# EAGLE library part DLX2416 (library Parts)
Alphanumeric Smart Display DLR2416, DLRO416, DLRG416 Datasheet <http://www.mouser.com/ds/2/311/00034171_0-64059.pdf>
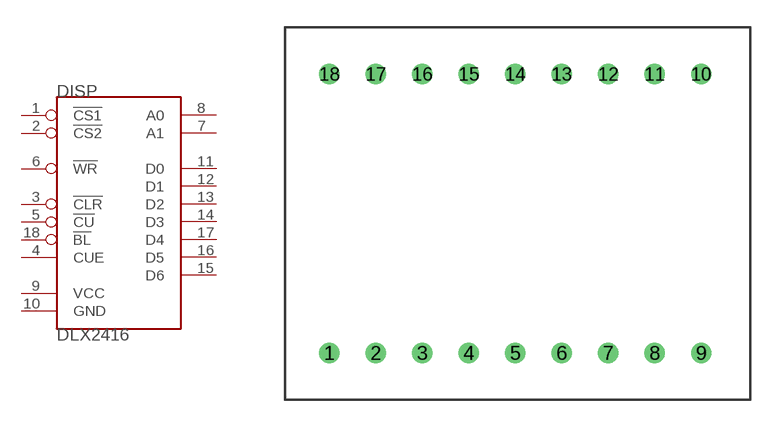
[diagram p3: symbol with the pads of DLX2416; footprint DLX2416]

Designator prefix DISP

## DLX2416  [DLX2416]
1  !CS1  in
2  !CS2  in
3  !CLR  in
4  CUE  in
5  !CU  in
6  !WR  in
7  A1  in
8  A0  in
9  VCC  pwr
10  GND  pwr
11  D0  in
12  D1  in
13  D2  in
14  D3  in
15  D6  in
16  D5  in
17  D4  in
18  !BL  in

## Footprint DLX2416 (pad centres in mm)
Footprint for OSRAM DLR2416, DLO2416, DLG2416
drill 0.6: 1 0,-15.24; 2 2.54,-15.24; 3 5.08,-15.24; 4 7.62,-15.24; 5 10.16,-15.24; 6 12.7,-15.24; 7 15.24,-15.24; 8 17.78,-15.24; 9 20.32,-15.24; 10 20.32,0; 11 17.78,0; 12 15.24,0; 13 12.7,0; 14 10.16,0; 15 7.62,0; 16 5.08,0; 17 2.54,0; 18 0,0